# Altium footprint library ICL7107CPL.PcbLib: 2 footprints
Each footprint in its own frame and in the unit in brackets; x right, y up, seen from the top. Pads: shape width x height; smd on the part's side, far side on the other; paste and mask are expansions set on the pad; w line width, h text height; cw(c..) or ccw(c..) is an arc to the next point about the centre after c.
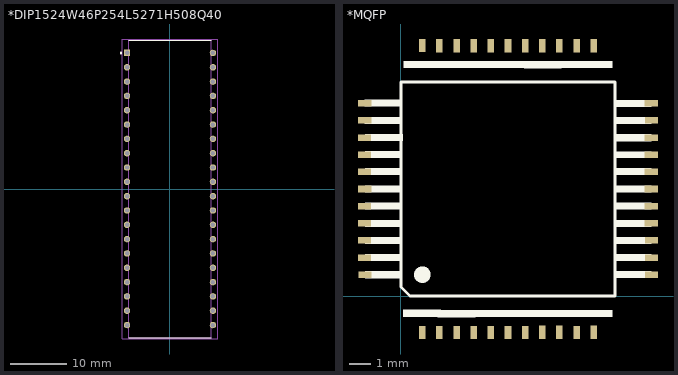
[diagram p0: the footprints below, top view; thin cyan lines are the x and y axes]

## *DIP1524W46P254L5271H508Q40 [mm]
pads (40):
  rect 1.14x1.14 hole 0.79: 1(-7.62,24.13)
  round 1.14 hole 0.79: 2(-7.62,21.59) 3(-7.62,19.05) 4(-7.62,16.51) 5(-7.62,13.97) 6(-7.62,11.43) 7(-7.62,8.89) 8(-7.62,6.35) 9(-7.62,3.81) 10(-7.62,1.27) 11(-7.62,-1.27) 12(-7.62,-3.81) 13(-7.62,-6.35) 14(-7.62,-8.89) 15(-7.62,-11.43) 16(-7.62,-13.97) 17(-7.62,-16.51) 18(-7.62,-19.05) 19(-7.62,-21.59) 20(-7.62,-24.13) 21(7.62,-24.13) 22(7.62,-21.59) 23(7.62,-19.05) 24(7.62,-16.51) 25(7.62,-13.97) 26(7.62,-11.43) 27(7.62,-8.89) 28(7.62,-6.35) 29(7.62,-3.81) 30(7.62,-1.27) 31(7.62,1.27) 32(7.62,3.81) 33(7.62,6.35) 34(7.62,8.89) 35(7.62,11.43) 36(7.62,13.97) 37(7.62,16.51) 38(7.62,19.05) 39(7.62,21.59) 40(7.62,24.13)
Top Overlay:
  circle w0.2: c-8.69,24.13 r0.1
  lines w0.127: -7.305,-26.355 7.305,-26.355 ; -7.305,26.355 7.305,26.355
Mechanical 13:
  circle w0.2: c-8.69,24.13 r0.1
  circle w0.2: c-8.69,24.13 r0.1
  lines w0.127: -7.305,-26.355 -7.305,26.355 ; -7.305,-26.355 7.305,-26.355 ; -7.305,-26.355 -7.305,26.355 ; -7.305,-26.355 7.305,-26.355 ; -7.305,26.355 7.305,26.355 ; -7.305,26.355 7.305,26.355 ; 7.305,-26.355 7.305,26.355 ; 7.305,-26.355 7.305,26.355
Mechanical 16:
  lines w0.05: -8.44,-26.605 -8.44,26.605 8.44,26.605 8.44,-26.605 -8.44,-26.605

## *MQFP [mil]
pads (44):
  rect 12x24 smd: 1(39.37,-66.93) 2(70.87,-66.93) 3(102.36,-66.93) 4(133.46,-66.93) 5(165.35,-66.93) 6(196.85,-66.93) 7(228.35,-66.93) 8(259.84,-66.54) 9(291.34,-66.54) 10(322.83,-66.93) 11(354.33,-66.54) 23(354.33,460.24) 24(322.83,460.24) 25(291.34,460.24) 26(260.24,460.24) 27(228.74,460.24) 28(196.85,460.24) 29(165.35,460.24) 30(133.86,460.24) 31(102.36,460.24) 32(70.87,460.24) 33(39.37,460.63)
  rect 24x12 smd: 12(460.63,39.37) 13(460.63,70.87) 14(460.63,102.36) 15(460.24,133.86) 16(460.24,165.35) 17(460.24,196.85) 18(460.24,228.35) 19(460.24,259.84) 20(460.24,291.34) 21(460.63,322.83) 22(460.24,354.33) 34(-66.54,354.33) 35(-66.54,322.83) 36(-66.93,291.34) 37(-66.93,259.84) 38(-66.93,228.35) 39(-66.54,196.85) 40(-66.93,165.35) 41(-66.93,133.86) 42(-66.93,102.36) 43(-66.93,70.87) 44(-66.14,39.37)
Top Overlay:
  drawing of 52 lines, arcs and shapes, not listed